# EAGLE library part LTC3226EUD (library Oles komponentbibliotek)
2-cell supercapacitor charger with backup powerpath controller
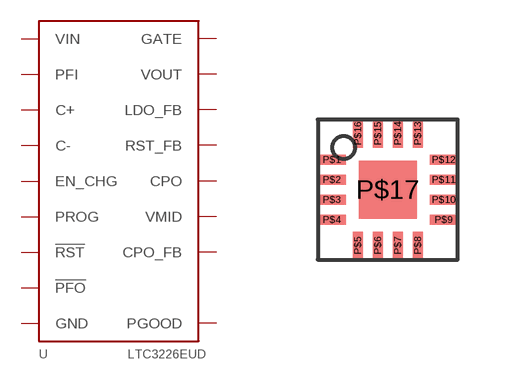
[diagram p46: symbol with the pads of QFN-16; footprint QFN-16]

Designator prefix -

## LTC3226EUD  [QFN-16]
P$1  VOUT  pwr
P$2  !PFO  out
P$3  PFI  in
P$4  LDO_FB  in
P$5  GATE  out
P$6  RST_FB  in
P$7  !RST  out
P$8  EN_CHG  in
P$9  PROG  in
P$10  CPO_FB  in
P$11  PGOOD  out
P$12  C-  pas
P$13  VIN  pwr
P$14  VMID  pwr
P$15  C+  pas
P$16  CPO  pwr
P$17  GND  pwr

## Footprint QFN-16 (pad centres in mm)
16-Lead Plastic QFN (3mm × 3mm) with exposed pad
smd 0.7 x 0.25: P$1 -1.4,0.7; P$2 -1.4,0.2; P$3 -1.4,-0.3; P$4 -1.4,-0.8; P$9 1.4,-0.8; P$10 1.4,-0.3; P$11 1.4,0.2; P$12 1.4,0.7
smd 0.25 x 0.7: P$5 -0.75,-1.45; P$6 -0.25,-1.45; P$7 0.25,-1.45; P$8 0.75,-1.45; P$13 0.75,1.35; P$14 0.25,1.35; P$15 -0.25,1.35; P$16 -0.75,1.35
smd 1.45 x 1.45: P$17 0,-0.05